# Altium schematic symbol library Schlib1.SchLib: 5 symbols
Pins are listed as number, name and electrical type; pins without a type are passive.

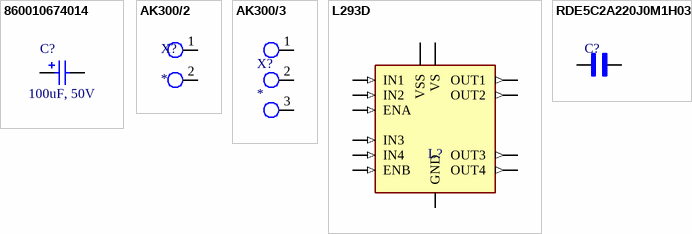
[diagram p0: symbols 860010674014 to RDE5C2A220J0M1H03A]

## 860010674014
designator C?, comment 100uF, 50V
WCAP-ATG8 Aluminum Electrolytic Capacitor, Radial, THT, D8xH11.5, 100uF, 50V; Manufacturer Part Number: 860010674014; Manufacturer: Wurth Elektronik; Ripple Current: 286mA; Rated Voltage: 50VDC; Technical Reference: ATBE115101M050DSPA7B000; Leakage Current: 50uA; Endurance: 2000h; Dissipation Factor: 10%; Capacitance Tolerance: +/-20%; ComponentLink2Description: Datasheet; Published Date: October 2020; Packaging: Ammo Pack; Operating Temperature: -40 to +85degC; Mounting Technology: THT; Height: 11.5mm; Diameter: 8mm; ComponentLink2URL: https://www.we-online.com/catalog/datasheet/860010674014.pdf; ComponentLink1URL: http://www.we-online.de; ComponentLink1Description: Manufacturer; Capacitance: 100uF
footprint WCAP-ATG8_D8H11.5
pins: 1 P, 2 N

## AK300/2
designator X?
MP: AK300/3; MF: Altech; Package: None; Availability: Unavailable; SnapEDA_Link: https://www.snapeda.com/parts/AK300/3/Altech/view-part/2748485/?ref=snap; Check_prices: https://www.snapeda.com/parts/AK300/3/Altech/view-part/2748485/?ref=eda; Value: *; Price: None
footprint AK300/2
pins: 1 KL, 2 KL

## AK300/3
designator X?
MP: AK300/3; MF: Altech; Package: None; Availability: Unavailable; SnapEDA_Link: https://www.snapeda.com/parts/AK300/3/Altech/view-part/2748485/?ref=snap; Check_prices: https://www.snapeda.com/parts/AK300/3/Altech/view-part/2748485/?ref=eda; Value: *; Price: None
footprint AK300/3
pins: 1 KL, 2 KL, 3 KL

## L293D
designator L?  (value not drawn)
footprint L293D
pins: ENA (in), ENB (in), GND, IN1 (in), IN2 (in), IN3 (in), IN4 (in), OUT1 (out), OUT2 (out), OUT3 (out), OUT4 (out), VS, VSS

## RDE5C2A220J0M1H03A
designator C?  (value not drawn)
Lead Capacitor C0G_EIA_ with Capacitance: 22pF and Rated Voltage: 100Vdc; MF: Murata; MP: RDE5C2A220J0M1H03A; Availability: Unavailable; Price: None; Package: Radial Murata; Value: *; SnapEDA_Link: https://www.snapeda.com/parts/RDE5C2A220J0M1H03A/Murata/view-part/4545539/?ref=snap
footprint CAP_RDE5C2A220J0M1H03A (Footprint not found)
pins: 1, 2